# EAGLE library part TLV320AIC3106IRGZR (library TLV320AIC3106)
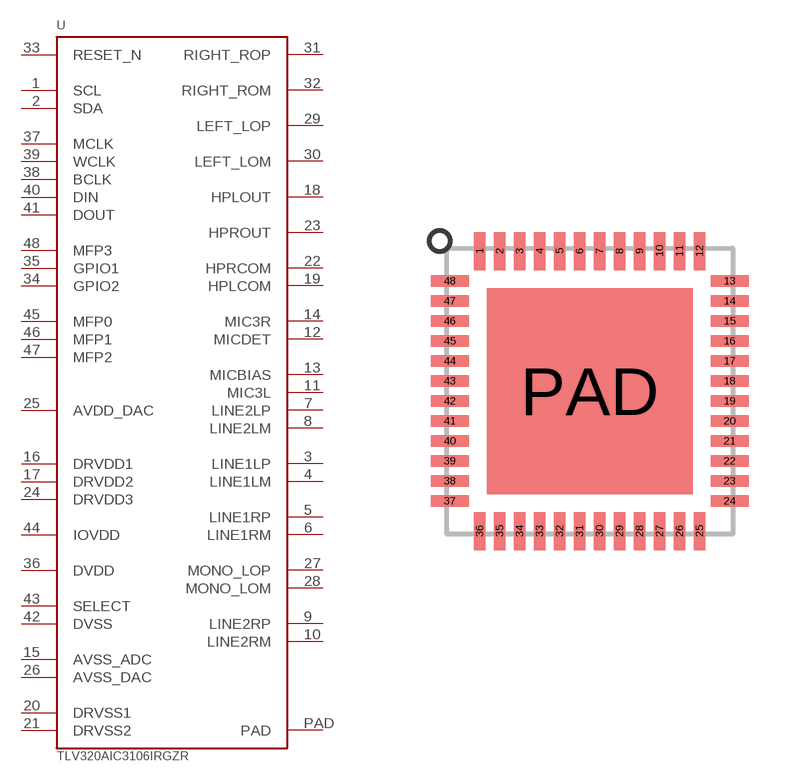
[diagram p0: symbol with the pads of 48-VFQFN; footprint 48-VFQFN]

Designator prefix U

## TLV320AIC3106IRGZR  [48-VFQFN]
1  SCL
2  SDA
3  LINE1LP
4  LINE1LM
5  LINE1RP
6  LINE1RM
7  LINE2LP
8  LINE2LM
9  LINE2RP
10  LINE2RM
11  MIC3L
12  MICDET
13  MICBIAS
14  MIC3R
15  AVSS_ADC
16  DRVDD1
17  DRVDD2
18  HPLOUT
19  HPLCOM
20  DRVSS1
21  DRVSS2
22  HPRCOM
23  HPROUT
24  DRVDD3
25  AVDD_DAC
26  AVSS_DAC
27  MONO_LOP
28  MONO_LOM
29  LEFT_LOP
30  LEFT_LOM
31  RIGHT_ROP
32  RIGHT_ROM
33  RESET_N
34  GPIO2
35  GPIO1
36  DVDD
37  MCLK
38  BCLK
39  WCLK
40  DIN
41  DOUT
42  DVSS
43  SELECT
44  IOVDD
45  MFP0
46  MFP1
47  MFP2
48  MFP3
PAD  PAD

## Footprint 48-VFQFN (pad centres in mm)
smd 0.28 x 0.95: 1 -2.75,3.5; 2 -2.25,3.5; 3 -1.75,3.5; 4 -1.25,3.5; 5 -0.75,3.5; 6 -0.25,3.5; 7 0.25,3.5; 8 0.75,3.5; 9 1.25,3.5; 10 1.75,3.5; 11 2.25,3.5; 12 2.75,3.5; 25 2.75,-3.5; 26 2.25,-3.5; 27 1.75,-3.5; 28 1.25,-3.5; 29 0.75,-3.5; 30 0.25,-3.5; 31 -0.25,-3.5; 32 -0.75,-3.5; 33 -1.25,-3.5; 34 -1.75,-3.5; 35 -2.25,-3.5; 36 -2.75,-3.5
smd 0.95 x 0.28: 13 3.5,2.75; 14 3.5,2.25; 15 3.5,1.75; 16 3.5,1.25; 17 3.5,0.75; 18 3.5,0.25; 19 3.5,-0.25; 20 3.5,-0.75; 21 3.5,-1.25; 22 3.5,-1.75; 23 3.5,-2.25; 24 3.5,-2.75; 37 -3.5,-2.75; 38 -3.5,-2.25; 39 -3.5,-1.75; 40 -3.5,-1.25; 41 -3.5,-0.75; 42 -3.5,-0.25; 43 -3.5,0.25; 44 -3.5,0.75; 45 -3.5,1.25; 46 -3.5,1.75; 47 -3.5,2.25; 48 -3.5,2.75
smd 5.15 x 5.15: PAD 0,0